# EAGLE library part XC95144XL-TQ100 (library terriblefire)
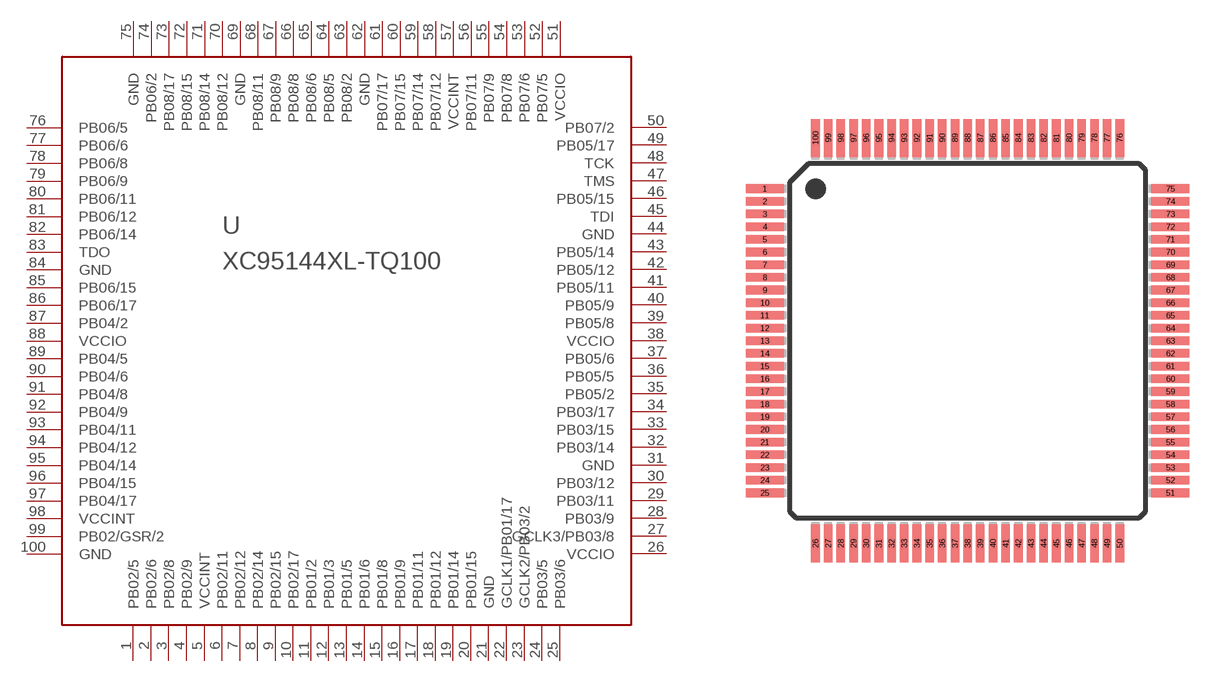
[diagram p1: symbol with the pads of TQFP100; footprint TQFP100]

Designator prefix -

## XC95144XL-TQ100  [TQFP100]
1  PB02/5
2  PB02/6
3  PB02/8
4  PB02/9
5  VCCINT
6  PB02/11
7  PB02/12
8  PB02/14
9  PB02/15
10  PB02/17
11  PB01/2
12  PB01/3
13  PB01/5
14  PB01/6
15  PB01/8
16  PB01/9
17  PB01/11
18  PB01/12
19  PB01/14
20  PB01/15
21  GND
22  GCLK1/PB01/17
23  GCLK2/PB03/2
24  PB03/5
25  PB03/6
26  VCCIO
27  GCLK3/PB03/8
28  PB03/9
29  PB03/11
30  PB03/12
31  GND
32  PB03/14
33  PB03/15
34  PB03/17
35  PB05/2
36  PB05/5
37  PB05/6
38  VCCIO
39  PB05/8
40  PB05/9
41  PB05/11
42  PB05/12
43  PB05/14
44  GND
45  TDI
46  PB05/15
47  TMS
48  TCK
49  PB05/17
50  PB07/2
51  VCCIO
52  PB07/5
53  PB07/6
54  PB07/8
55  PB07/9
56  PB07/11
57  VCCINT
58  PB07/12
59  PB07/14
60  PB07/15
61  PB07/17
62  GND
63  PB08/2
64  PB08/5
65  PB08/6
66  PB08/8
67  PB08/9
68  PB08/11
69  GND
70  PB08/12
71  PB08/14
72  PB08/15
73  PB08/17
74  PB06/2
75  GND
76  PB06/5
77  PB06/6
78  PB06/8
79  PB06/9
80  PB06/11
81  PB06/12
82  PB06/14
83  TDO
84  GND
85  PB06/15
86  PB06/17
87  PB04/2
88  VCCIO
89  PB04/5
90  PB04/6
91  PB04/8
92  PB04/9
93  PB04/11
94  PB04/12
95  PB04/14
96  PB04/15
97  PB04/17
98  VCCINT
99  PB02/GSR/2
100  GND

## Footprint TQFP100 (pad centres in mm)
Plastic Thin Quad Flat Pack
smd 1.5 x 0.34: 1 -8,6; 2 -8,5.5; 3 -8,5; 4 -8,4.5; 5 -8,4; 6 -8,3.5; 7 -8,3; 8 -8,2.5; 9 -8,2; 10 -8,1.5; 11 -8,1; 12 -8,0.5; 13 -8,0; 14 -8,-0.5; 15 -8,-1; 16 -8,-1.5; 17 -8,-2; 18 -8,-2.5; 19 -8,-3; 20 -8,-3.5; 21 -8,-4; 22 -8,-4.5; 23 -8,-5; 24 -8,-5.5; 25 -8,-6; 51 8,-6; 52 8,-5.5; 53 8,-5; 54 8,-4.5; 55 8,-4; 56 8,-3.5; 57 8,-3; 58 8,-2.5; 59 8,-2; 60 8,-1.5; 61 8,-1; 62 8,-0.5; 63 8,0; 64 8,0.5; 65 8,1; 66 8,1.5; 67 8,2; 68 8,2.5; 69 8,3; 70 8,3.5; 71 8,4; 72 8,4.5; 73 8,5; 74 8,5.5; 75 8,6
smd 0.34 x 1.5: 26 -6,-8; 27 -5.5,-8; 28 -5,-8; 29 -4.5,-8; 30 -4,-8; 31 -3.5,-8; 32 -3,-8; 33 -2.5,-8; 34 -2,-8; 35 -1.5,-8; 36 -1,-8; 37 -0.5,-8; 38 0,-8; 39 0.5,-8; 40 1,-8; 41 1.5,-8; 42 2,-8; 43 2.5,-8; 44 3,-8; 45 3.5,-8; 46 4,-8; 47 4.5,-8; 48 5,-8; 49 5.5,-8; 50 6,-8; 76 6,8; 77 5.5,8; 78 5,8; 79 4.5,8; 80 4,8; 81 3.5,8; 82 3,8; 83 2.5,8; 84 2,8; 85 1.5,8; 86 1,8; 87 0.5,8; 88 0,8; 89 -0.5,8; 90 -1,8; 91 -1.5,8; 92 -2,8; 93 -2.5,8; 94 -3,8; 95 -3.5,8; 96 -4,8; 97 -4.5,8; 98 -5,8; 99 -5.5,8; 100 -6,8